# Altium footprint library LEDC1010X25N.PcbLib: 1 footprints
Each footprint in its own frame and in the unit in brackets; x right, y up, seen from the top. Pads: shape width x height; smd on the part's side, far side on the other; paste and mask are expansions set on the pad; w line width, h text height; cw(c..) or ccw(c..) is an arc to the next point about the centre after c.
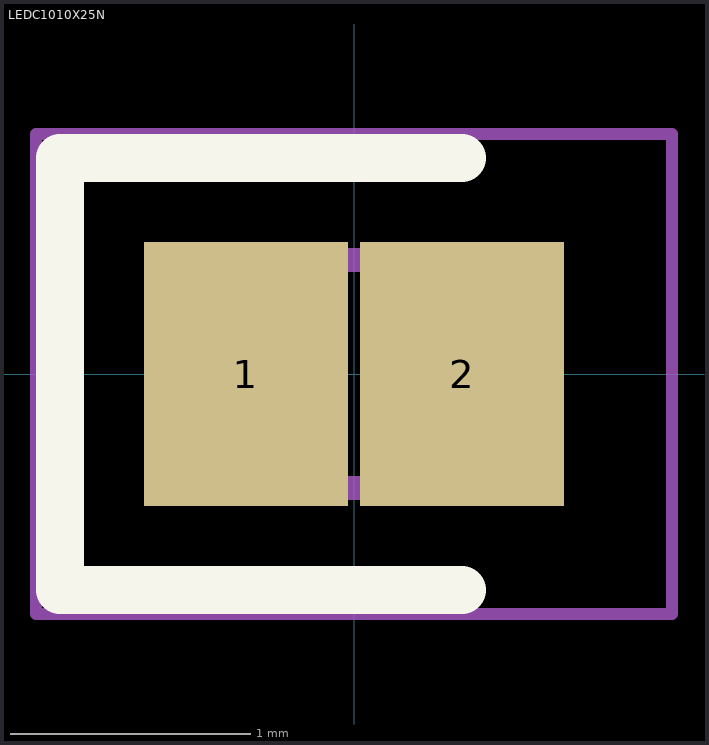
[diagram p0: the footprint, top view; thin cyan lines are the x and y axes]

## LEDC1010X25N [mm]
pads (2):
  rect 0.85x1.1 smd: 1(-0.45,0) 2(0.45,0)
Top Overlay:
  lines w0.2: 0.45,-0.9 -1.225,-0.9 -1.225,0.9 0.45,0.9
Mechanical 15:
  lines w0.1: -0.475,0.158 -0.158,0.475 ; -0.475,-0.475 0.475,-0.475 0.475,0.475 -0.475,0.475 -0.475,-0.475
Mechanical 20:
  lines w0.05: -1.325,-1 1.325,-1 1.325,1 -1.325,1 -1.325,-1